# Altium schematic symbol library 50C02CH.Schlib: 1 symbol
Pins are listed as number, name and electrical type; pins without a type are passive.

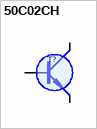
[diagram p0: symbol 50C02CH]

## 50C02CH
designator T?
SOT23     50V 0.5A 500MHz 2.8p (10V) (50A02CH)
pins: 1 B, 2 E (oe), 3 C (oc)
1 alternate drawing of the same symbol